# EAGLE library part NUCLEO-F429ZI (library NUCLEO-F429ZI)
STM32F429ZI, mbed-Enabled Development Nucleo-144 STM32F4 ARM® Cortex®-M4 MCU 32-Bit Embedded Evaluation Board Check availability <https://pricing.snapeda.com/parts/NUCLEO-F429ZI/STMicroelectronics/view-part?ref=eda>
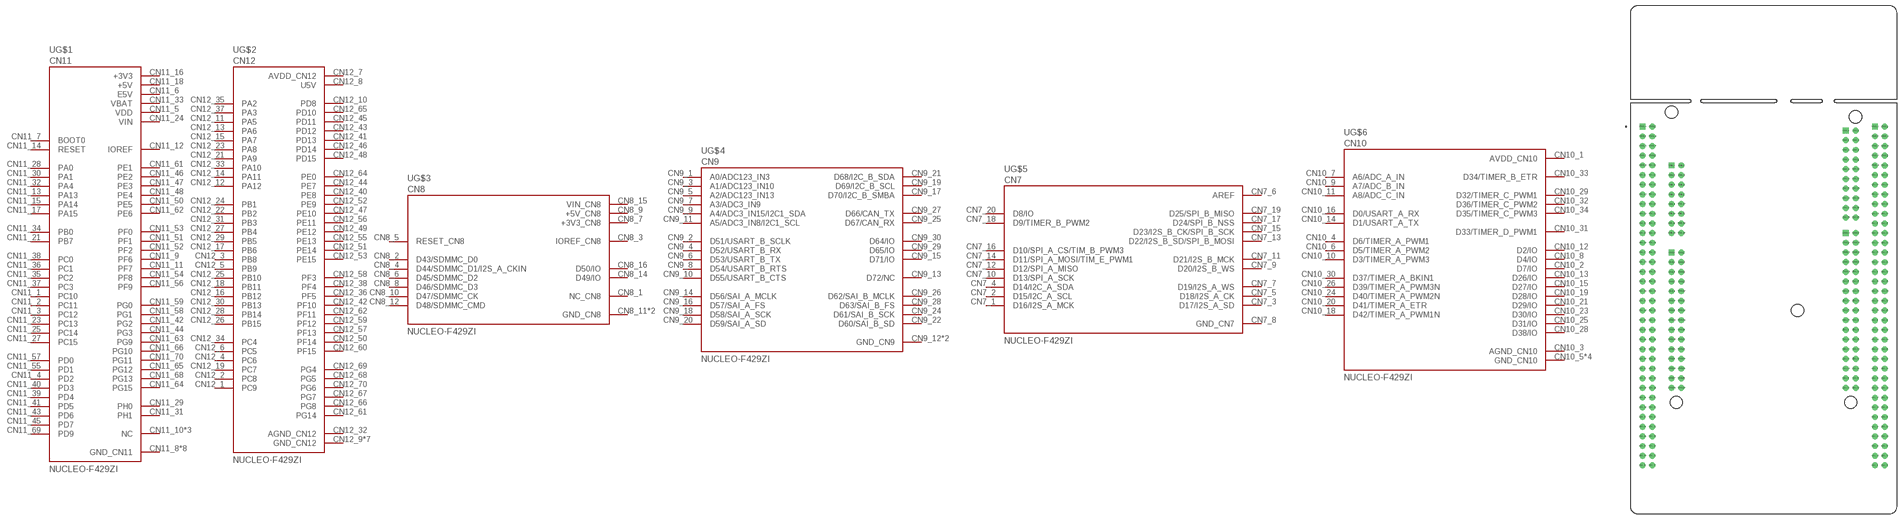
[diagram p0: symbol with the pads of MODULE_NUCLEO-F429ZI; footprint MODULE_NUCLEO-F429ZI]

Designator prefix U; gates G$1=NUCLEO-F429ZI_CN11 G$2=NUCLEO-F429ZI_CN12 G$3=NUCLEO-F429ZI_CN8 G$4=NUCLEO-F429ZI_CN9 G$5=NUCLEO-F429ZI_CN7 G$6=NUCLEO-F429ZI_CN10

## NUCLEO-F429ZI (Availability: In Stock; Description: STM32F429ZI, mbed-Enabled Development Nucleo-144 STM32F4 ARM® Cortex®-M4 MCU 32-Bit Embedded Evaluation Board; MF: STMicroelectronics; MP: NUCLEO-F429ZI; Package: None; Price: None; Purchase-URL: https://pricing.snapeda.com/search/part/NUCLEO-F429ZI/?ref=eda)  [MODULE_NUCLEO-F429ZI]
CN7_1  G$5:D16/I2S_A_MCK
CN7_2  G$5:D15/I2C_A_SCL
CN7_3  G$5:D17/I2S_A_SD
CN7_4  G$5:D14/I2C_A_SDA
CN7_5  G$5:D18/I2S_A_CK
CN7_6  G$5:AREF  pwr
CN7_7  G$5:D19/I2S_A_WS
CN7_8  G$5:GND_CN7  pwr
CN7_9  G$5:D20/I2S_B_WS
CN7_10  G$5:D13/SPI_A_SCK
CN7_11  G$5:D21/I2S_B_MCK
CN7_12  G$5:D12/SPI_A_MISO
CN7_13  G$5:D22/I2S_B_SD/SPI_B_MOSI
CN7_14  G$5:D11/SPI_A_MOSI/TIM_E_PWM1
CN7_15  G$5:D23/I2S_B_CK/SPI_B_SCK
CN7_16  G$5:D10/SPI_A_CS/TIM_B_PWM3
CN7_17  G$5:D24/SPI_B_NSS
CN7_18  G$5:D9/TIMER_B_PWM2
CN7_19  G$5:D25/SPI_B_MISO
CN7_20  G$5:D8/IO
CN8_1  G$3:NC_CN8  nc
CN8_2  G$3:D43/SDMMC_D0
CN8_3  G$3:IOREF_CN8
CN8_4  G$3:D44/SDMMC_D1/I2S_A_CKIN
CN8_5  G$3:RESET_CN8
CN8_6  G$3:D45/SDMMC_D2
CN8_7  G$3:+3V3_CN8  pwr
CN8_8  G$3:D46/SDMMC_D3
CN8_9  G$3:+5V_CN8  pwr
CN8_10  G$3:D47/SDMMC_CK
CN8_11  G$3:GND_CN8  pwr
CN8_12  G$3:D48/SDMMC_CMD
CN8_13  G$3:GND_CN8  pwr
CN8_14  G$3:D49/IO
CN8_15  G$3:VIN_CN8  pwr
CN8_16  G$3:D50/IO
CN9_1  G$4:A0/ADC123_IN3  in
CN9_2  G$4:D51/USART_B_SCLK
CN9_3  G$4:A1/ADC123_IN10  in
CN9_4  G$4:D52/USART_B_RX
CN9_5  G$4:A2/ADC123_IN13  in
CN9_6  G$4:D53/USART_B_TX
CN9_7  G$4:A3/ADC3_IN9  in
CN9_8  G$4:D54/USART_B_RTS
CN9_9  G$4:A4/ADC3_IN15/I2C1_SDA  in
CN9_10  G$4:D55/USART_B_CTS
CN9_11  G$4:A5/ADC3_IN8/I2C1_SCL  in
CN9_12  G$4:GND_CN9  pwr
CN9_13  G$4:D72/NC
CN9_14  G$4:D56/SAI_A_MCLK
CN9_15  G$4:D71/IO
CN9_16  G$4:D57/SAI_A_FS
CN9_17  G$4:D70/I2C_B_SMBA
CN9_18  G$4:D58/SAI_A_SCK
CN9_19  G$4:D69/I2C_B_SCL
CN9_20  G$4:D59/SAI_A_SD
CN9_21  G$4:D68/I2C_B_SDA
CN9_22  G$4:D60/SAI_B_SD
CN9_23  G$4:GND_CN9  pwr
CN9_24  G$4:D61/SAI_B_SCK
CN9_25  G$4:D67/CAN_RX  in
CN9_26  G$4:D62/SAI_B_MCLK
CN9_27  G$4:D66/CAN_TX  out
CN9_28  G$4:D63/SAI_B_FS
CN9_29  G$4:D65/IO
CN9_30  G$4:D64/IO
CN10_1  G$6:AVDD_CN10  pwr
CN10_2  G$6:D7/IO
CN10_3  G$6:AGND_CN10  pwr
CN10_4  G$6:D6/TIMER_A_PWM1
CN10_5  G$6:GND_CN10  pwr
CN10_6  G$6:D5/TIMER_A_PWM2
CN10_7  G$6:A6/ADC_A_IN  in
CN10_8  G$6:D4/IO
CN10_9  G$6:A7/ADC_B_IN  in
CN10_10  G$6:D3/TIMER_A_PWM3
CN10_11  G$6:A8/ADC_C_IN  in
CN10_12  G$6:D2/IO
CN10_13  G$6:D26/IO
CN10_14  G$6:D1/USART_A_TX  out
CN10_15  G$6:D27/IO
CN10_16  G$6:D0/USART_A_RX  in
CN10_17  G$6:GND_CN10  pwr
CN10_18  G$6:D42/TIMER_A_PWM1N
CN10_19  G$6:D28/IO
CN10_20  G$6:D41/TIMER_A_ETR
CN10_21  G$6:D29/IO
CN10_22  G$6:GND_CN10  pwr
CN10_23  G$6:D30/IO
CN10_24  G$6:D40/TIMER_A_PWM2N
CN10_25  G$6:D31/IO
CN10_26  G$6:D39/TIMER_A_PWM3N
CN10_27  G$6:GND_CN10  pwr
CN10_28  G$6:D38/IO
CN10_29  G$6:D32/TIMER_C_PWM1
CN10_30  G$6:D37/TIMER_A_BKIN1
CN10_31  G$6:D33/TIMER_D_PWM1
CN10_32  G$6:D36/TIMER_C_PWM2
CN10_33  G$6:D34/TIMER_B_ETR
CN10_34  G$6:D35/TIMER_C_PWM3
CN11_1  G$1:PC10
CN11_2  G$1:PC11
CN11_3  G$1:PC12
CN11_4  G$1:PD2
CN11_5  G$1:VDD  pwr
CN11_6  G$1:E5V  pwr
CN11_7  G$1:BOOT0
CN11_8  G$1:GND_CN11  pwr
CN11_9  G$1:PF6
CN11_10  G$1:NC  nc
CN11_11  G$1:PF7
CN11_12  G$1:IOREF
CN11_13  G$1:PA13
CN11_14  G$1:RESET
CN11_15  G$1:PA14
CN11_16  G$1:+3V3  pwr
CN11_17  G$1:PA15
CN11_18  G$1:+5V  pwr
CN11_19  G$1:GND_CN11  pwr
CN11_20  G$1:GND_CN11  pwr
CN11_21  G$1:PB7
CN11_22  G$1:GND_CN11  pwr
CN11_23  G$1:PC13
CN11_24  G$1:VIN  pwr
CN11_25  G$1:PC14
CN11_26  G$1:NC  nc
CN11_27  G$1:PC15
CN11_28  G$1:PA0
CN11_29  G$1:PH0
CN11_30  G$1:PA1
CN11_31  G$1:PH1
CN11_32  G$1:PA4
CN11_33  G$1:VBAT  pwr
CN11_34  G$1:PB0
CN11_35  G$1:PC2
CN11_36  G$1:PC1
CN11_37  G$1:PC3
CN11_38  G$1:PC0
CN11_39  G$1:PD4
CN11_40  G$1:PD3
CN11_41  G$1:PD5
CN11_42  G$1:PG2
CN11_43  G$1:PD6
CN11_44  G$1:PG3
CN11_45  G$1:PD7
CN11_46  G$1:PE2
CN11_47  G$1:PE3
CN11_48  G$1:PE4
CN11_49  G$1:GND_CN11  pwr
CN11_50  G$1:PE5
CN11_51  G$1:PF1
CN11_52  G$1:PF2
CN11_53  G$1:PF0
CN11_54  G$1:PF8
CN11_55  G$1:PD1
CN11_56  G$1:PF9
CN11_57  G$1:PD0
CN11_58  G$1:PG1
CN11_59  G$1:PG0
CN11_60  G$1:GND_CN11  pwr
CN11_61  G$1:PE1
CN11_62  G$1:PE6
CN11_63  G$1:PG9
CN11_64  G$1:PG15
CN11_65  G$1:PG12
CN11_66  G$1:PG10
CN11_67  G$1:NC  nc
CN11_68  G$1:PG13
CN11_69  G$1:PD9
CN11_70  G$1:PG11
CN11_71  G$1:GND_CN11  pwr
CN11_72  G$1:GND_CN11  pwr
CN12_1  G$2:PC9
CN12_2  G$2:PC8
CN12_3  G$2:PB8
CN12_4  G$2:PC6
CN12_5  G$2:PB9
CN12_6  G$2:PC5
CN12_7  G$2:AVDD_CN12  pwr
CN12_8  G$2:U5V  pwr
CN12_9  G$2:GND_CN12  pwr
CN12_10  G$2:PD8
CN12_11  G$2:PA5
CN12_12  G$2:PA12
CN12_13  G$2:PA6
CN12_14  G$2:PA11
CN12_15  G$2:PA7
CN12_16  G$2:PB12
CN12_17  G$2:PB6
CN12_18  G$2:PB11
CN12_19  G$2:PC7
CN12_20  G$2:GND_CN12  pwr
CN12_21  G$2:PA9
CN12_22  G$2:PB2
CN12_23  G$2:PA8
CN12_24  G$2:PB1
CN12_25  G$2:PB10
CN12_26  G$2:PB15
CN12_27  G$2:PB4
CN12_28  G$2:PB14
CN12_29  G$2:PB5
CN12_30  G$2:PB13
CN12_31  G$2:PB3
CN12_32  G$2:AGND_CN12  pwr
CN12_33  G$2:PA10
CN12_34  G$2:PC4
CN12_35  G$2:PA2
CN12_36  G$2:PF5
CN12_37  G$2:PA3
CN12_38  G$2:PF4
CN12_39  G$2:GND_CN12  pwr
CN12_40  G$2:PE8
CN12_41  G$2:PD13
CN12_42  G$2:PF10
CN12_43  G$2:PD12
CN12_44  G$2:PE7
CN12_45  G$2:PD11
CN12_46  G$2:PD14
CN12_47  G$2:PE10
CN12_48  G$2:PD15
CN12_49  G$2:PE12
CN12_50  G$2:PF14
CN12_51  G$2:PE14
CN12_52  G$2:PE9
CN12_53  G$2:PE15
CN12_54  G$2:GND_CN12  pwr
CN12_55  G$2:PE13
CN12_56  G$2:PE11
CN12_57  G$2:PF13
CN12_58  G$2:PF3
CN12_59  G$2:PF12
CN12_60  G$2:PF15
CN12_61  G$2:PG14
CN12_62  G$2:PF11
CN12_63  G$2:GND_CN12  pwr
CN12_64  G$2:PE0
CN12_65  G$2:PD10
CN12_66  G$2:PG8
CN12_67  G$2:PG7
CN12_68  G$2:PG5
CN12_69  G$2:PG4
CN12_70  G$2:PG6
CN12_71  G$2:GND_CN12  pwr
CN12_72  G$2:GND_CN12  pwr

## Footprint MODULE_NUCLEO-F429ZI (pad centres in mm)
drill 1.02 square: CN7_1 21.59,33.914; CN8_1 -24.13,24.77; CN9_1 -24.13,1.91; CN10_1 21.59,6.99; CN11_1 -31.75,34.93; CN12_1 29.21,34.91
drill 1.02: CN7_2 24.13,33.914; CN7_3 21.59,31.374; CN7_4 24.13,31.374; CN7_5 21.59,28.834; CN7_6 24.13,28.834; CN7_7 21.59,26.294; CN7_8 24.13,26.294; CN7_9 21.59,23.754; CN7_10 24.13,23.754; CN7_11 21.59,21.214; CN7_12 24.13,21.214; CN7_13 21.59,18.674; CN7_14 24.13,18.674; CN7_15 21.59,16.134; CN7_16 24.13,16.134; CN7_17 21.59,13.594; CN7_18 24.13,13.594; CN7_19 21.59,11.054; CN7_20 24.13,11.054; CN8_2 -21.59,24.77; CN8_3 -24.13,22.23; CN8_4 -21.59,22.23; CN8_5 -24.13,19.69; CN8_6 -21.59,19.69; CN8_7 -24.13,17.15; CN8_8 -21.59,17.15; CN8_9 -24.13,14.61; CN8_10 -21.59,14.61; CN8_11 -24.13,12.07; CN8_12 -21.59,12.07; CN8_13 -24.13,9.53; CN8_14 -21.59,9.53; CN8_15 -24.13,6.99; CN8_16 -21.59,6.99; CN9_2 -21.59,1.91; CN9_3 -24.13,-0.63; CN9_4 -21.59,-0.63; CN9_5 -24.13,-3.17; CN9_6 -21.59,-3.17; CN9_7 -24.13,-5.71; CN9_8 -21.59,-5.71; CN9_9 -24.13,-8.25; CN9_10 -21.59,-8.25; CN9_11 -24.13,-10.79; CN9_12 -21.59,-10.79; CN9_13 -24.13,-13.33; CN9_14 -21.59,-13.33; CN9_15 -24.13,-15.87; CN9_16 -21.59,-15.87; CN9_17 -24.13,-18.41; CN9_18 -21.59,-18.41; CN9_19 -24.13,-20.95; CN9_20 -21.59,-20.95; CN9_21 -24.13,-23.49; CN9_22 -21.59,-23.49; CN9_23 -24.13,-26.03; CN9_24 -21.59,-26.03; CN9_25 -24.13,-28.57; CN9_26 -21.59,-28.57; CN9_27 -24.13,-31.11; CN9_28 -21.59,-31.11; CN9_29 -24.13,-33.65; CN9_30 -21.59,-33.65; CN10_2 24.13,6.99; CN10_3 21.59,4.45; CN10_4 24.13,4.45; CN10_5 21.59,1.91; CN10_6 24.13,1.91; CN10_7 21.59,-0.63; CN10_8 24.13,-0.63; CN10_9 21.59,-3.17; CN10_10 24.13,-3.17; CN10_11 21.59,-5.71; CN10_12 24.13,-5.71; CN10_13 21.59,-8.25; CN10_14 24.13,-8.25; CN10_15 21.59,-10.79; CN10_16 24.13,-10.79; CN10_17 21.59,-13.33; CN10_18 24.13,-13.33; CN10_19 21.59,-15.87; CN10_20 24.13,-15.87; CN10_21 21.59,-18.41; CN10_22 24.13,-18.41; CN10_23 21.59,-20.95; CN10_24 24.13,-20.95; CN10_25 21.59,-23.49; CN10_26 24.13,-23.49; CN10_27 21.59,-26.03; CN10_28 24.13,-26.03; CN10_29 21.59,-28.57; CN10_30 24.13,-28.57; CN10_31 21.59,-31.11; CN10_32 24.13,-31.11; CN10_33 21.59,-33.65; CN10_34 24.13,-33.65; CN11_2 -29.21,34.93; CN11_3 -31.75,32.39; CN11_4 -29.21,32.39; CN11_5 -31.75,29.85; CN11_6 -29.21,29.85; CN11_7 -31.75,27.31; CN11_8 -29.21,27.31; CN11_9 -31.75,24.77; CN11_10 -29.21,24.77; CN11_11 -31.75,22.23; CN11_12 -29.21,22.23; CN11_13 -31.75,19.69; CN11_14 -29.21,19.69; CN11_15 -31.75,17.15; CN11_16 -29.21,17.15; CN11_17 -31.75,14.61; CN11_18 -29.21,14.61; CN11_19 -31.75,12.07; CN11_20 -29.21,12.07; CN11_21 -31.75,9.53; CN11_22 -29.21,9.53; CN11_23 -31.75,6.99; CN11_24 -29.21,6.99; CN11_25 -31.75,4.45; CN11_26 -29.21,4.45; CN11_27 -31.75,1.91; CN11_28 -29.21,1.91; CN11_29 -31.75,-0.63; CN11_30 -29.21,-0.63; CN11_31 -31.75,-3.17; CN11_32 -29.21,-3.17; CN11_33 -31.75,-5.71; CN11_34 -29.21,-5.71; CN11_35 -31.75,-8.25; CN11_36 -29.21,-8.25; CN11_37 -31.75,-10.79; CN11_38 -29.21,-10.79; CN11_39 -31.75,-13.33; CN11_40 -29.21,-13.33; CN11_41 -31.75,-15.87; CN11_42 -29.21,-15.87; CN11_43 -31.75,-18.41; CN11_44 -29.21,-18.41; CN11_45 -31.75,-20.95; CN11_46 -29.21,-20.95; CN11_47 -31.75,-23.49; CN11_48 -29.21,-23.49; CN11_49 -31.75,-26.03; CN11_50 -29.21,-26.03; CN11_51 -31.75,-28.57; CN11_52 -29.21,-28.57; CN11_53 -31.75,-31.11; CN11_54 -29.21,-31.11; CN11_55 -31.75,-33.65; CN11_56 -29.21,-33.65; CN11_57 -31.75,-36.19; CN11_58 -29.21,-36.19; CN11_59 -31.75,-38.73; CN11_60 -29.21,-38.73; CN11_61 -31.75,-41.27; CN11_62 -29.21,-41.27; CN11_63 -31.75,-43.81; CN11_64 -29.21,-43.81; CN11_65 -31.75,-46.35; CN11_66 -29.21,-46.35; CN11_67 -31.75,-48.89; CN11_68 -29.21,-48.89; CN11_69 -31.75,-51.43; CN11_70 -29.21,-51.43; CN11_71 -31.75,-53.97; CN11_72 -29.21,-53.97; CN12_2 31.75,34.91; CN12_3 29.21,32.37; CN12_4 31.75,32.37; CN12_5 29.21,29.83; CN12_6 31.75,29.83; CN12_7 29.21,27.29; CN12_8 31.75,27.29; CN12_9 29.21,24.75; CN12_10 31.75,24.75; CN12_11 29.21,22.21; CN12_12 31.75,22.21; CN12_13 29.21,19.67; CN12_14 31.75,19.67; CN12_15 29.21,17.13; CN12_16 31.75,17.13; CN12_17 29.21,14.59; CN12_18 31.75,14.59; CN12_19 29.21,12.05; CN12_20 31.75,12.05; CN12_21 29.21,9.51; CN12_22 31.75,9.51; CN12_23 29.21,6.97; CN12_24 31.75,6.97; CN12_25 29.21,4.43; CN12_26 31.75,4.43; CN12_27 29.21,1.89; CN12_28 31.75,1.89; CN12_29 29.21,-0.65; CN12_30 31.75,-0.65; CN12_31 29.21,-3.19; CN12_32 31.75,-3.19; CN12_33 29.21,-5.73; CN12_34 31.75,-5.73; CN12_35 29.21,-8.27; CN12_36 31.75,-8.27; CN12_37 29.21,-10.81; CN12_38 31.75,-10.81; CN12_39 29.21,-13.35; CN12_40 31.75,-13.35; CN12_41 29.21,-15.89; CN12_42 31.75,-15.89; CN12_43 29.21,-18.43; CN12_44 31.75,-18.43; CN12_45 29.21,-20.97; CN12_46 31.75,-20.97; CN12_47 29.21,-23.51; CN12_48 31.75,-23.51; CN12_49 29.21,-26.05; CN12_50 31.75,-26.05; CN12_51 29.21,-28.59; CN12_52 31.75,-28.59; CN12_53 29.21,-31.13; CN12_54 31.75,-31.13; CN12_55 29.21,-33.67; CN12_56 31.75,-33.67; CN12_57 29.21,-36.21; CN12_58 31.75,-36.21; CN12_59 29.21,-38.75; CN12_60 31.75,-38.75; CN12_61 29.21,-41.29; CN12_62 31.75,-41.29; CN12_63 29.21,-43.83; CN12_64 31.75,-43.83; CN12_65 29.21,-46.37; CN12_66 31.75,-46.37; CN12_67 29.21,-48.91; CN12_68 31.75,-48.91; CN12_69 29.21,-51.45; CN12_70 31.75,-51.45; CN12_71 29.21,-53.99; CN12_72 31.75,-53.99
hole 3.2 at -22.86,-37.46
hole 3.2 at 22.86,-37.46
hole 3.2 at 24.13,37.47
hole 3.2 at 8.89,-13.33
hole 3.2 at -24.13,38.74